# Altium footprint library SOP100P1030X260-13N.PcbLib: 1 footprints
Each footprint in its own frame and in the unit in brackets; x right, y up, seen from the top. Pads: shape width x height; smd on the part's side, far side on the other; paste and mask are expansions set on the pad; w line width, h text height; cw(c..) or ccw(c..) is an arc to the next point about the centre after c.
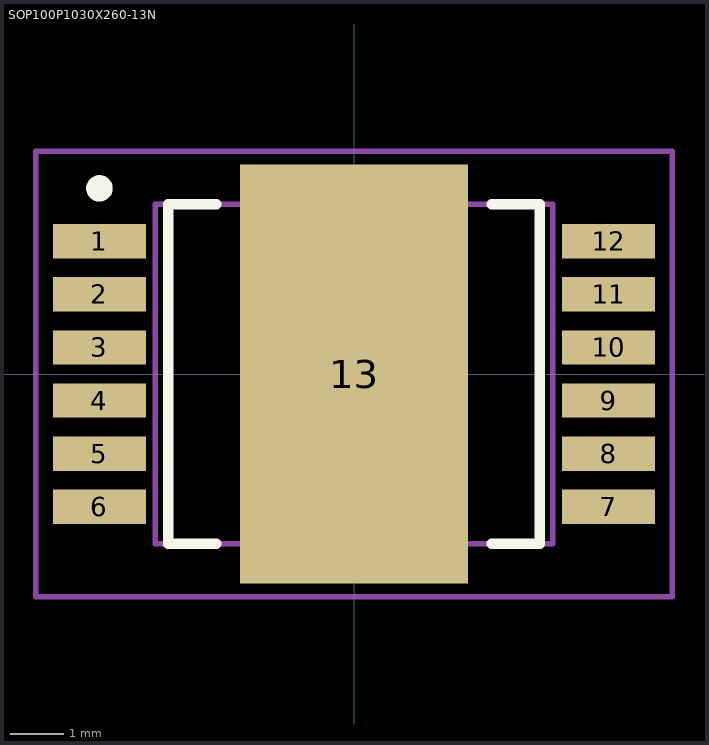
[diagram p0: the footprint, top view; thin cyan lines are the x and y axes]

## SOP100P1030X260-13N [mm] "SOP,1.00mm pitch;12 pin,7.50mm W X 6.40mm L X 2.60mm H body (w/thermal tab)"
height 2.6
pads (13):
  rect 1.75x0.65 smd paste+0 mask+0: 1(-4.8,2.5) 2(-4.8,1.5) 3(-4.8,0.5) 4(-4.8,-0.5) 5(-4.8,-1.5) 6(-4.8,-2.5) 7(4.8,-2.5) 8(4.8,-1.5) 9(4.8,-0.5) 10(4.8,0.5) 11(4.8,1.5) 12(4.8,2.5)
  rect 4.3x7.9 smd paste-3 mask+0: 13(0,0)
Top Overlay:
  circle w0.25: c-4.8,3.5 r0.125
  lines w0.2: -2.6,-3.2 -3.5,-3.2 -3.5,3.2 -2.6,3.2 ; 2.6,-3.2 3.5,-3.2 3.5,3.2 2.6,3.2
Top Paste:
  rectangle: -2,0.2 -0.2,1.8
  rectangle: 0.2,0.2 2,1.8
  rectangle: 0.2,-1.8 2,-0.2
  rectangle: -2,-1.8 -0.2,-0.2
  rectangle: -0.9,-3.9 0.9,-2.1
  rectangle: -0.9,2.1 0.9,3.9
Mechanical 3:
  text ".DESIGNATOR" at 0,0 h1.2
Mechanical 13:
  lines w0.1: -3.75,-3.2 3.75,-3.2 3.75,3.2 -3.75,3.2 -3.75,-3.2
Mechanical 15:
  lines w0.1: -0.5,0 0.5,0 ; 0,-0.5 0,0.5 ; -6,-4.2 -6,4.2 6,4.2 6,-4.2 -6,-4.2
3D body: height 2.61, standoff 0, extent -5.15,-3.9 5.15,3.9